# Altium footprint library Connector_Wire.PcbLib: 290 footprints (part 6 of 19)
Each footprint in its own frame and in the unit in brackets; x right, y up, seen from the top. Pads: shape width x height; smd on the part's side, far side on the other; paste and mask are expansions set on the pad; w line width, h text height; cw(c..) or ccw(c..) is an arc to the next point about the centre after c.
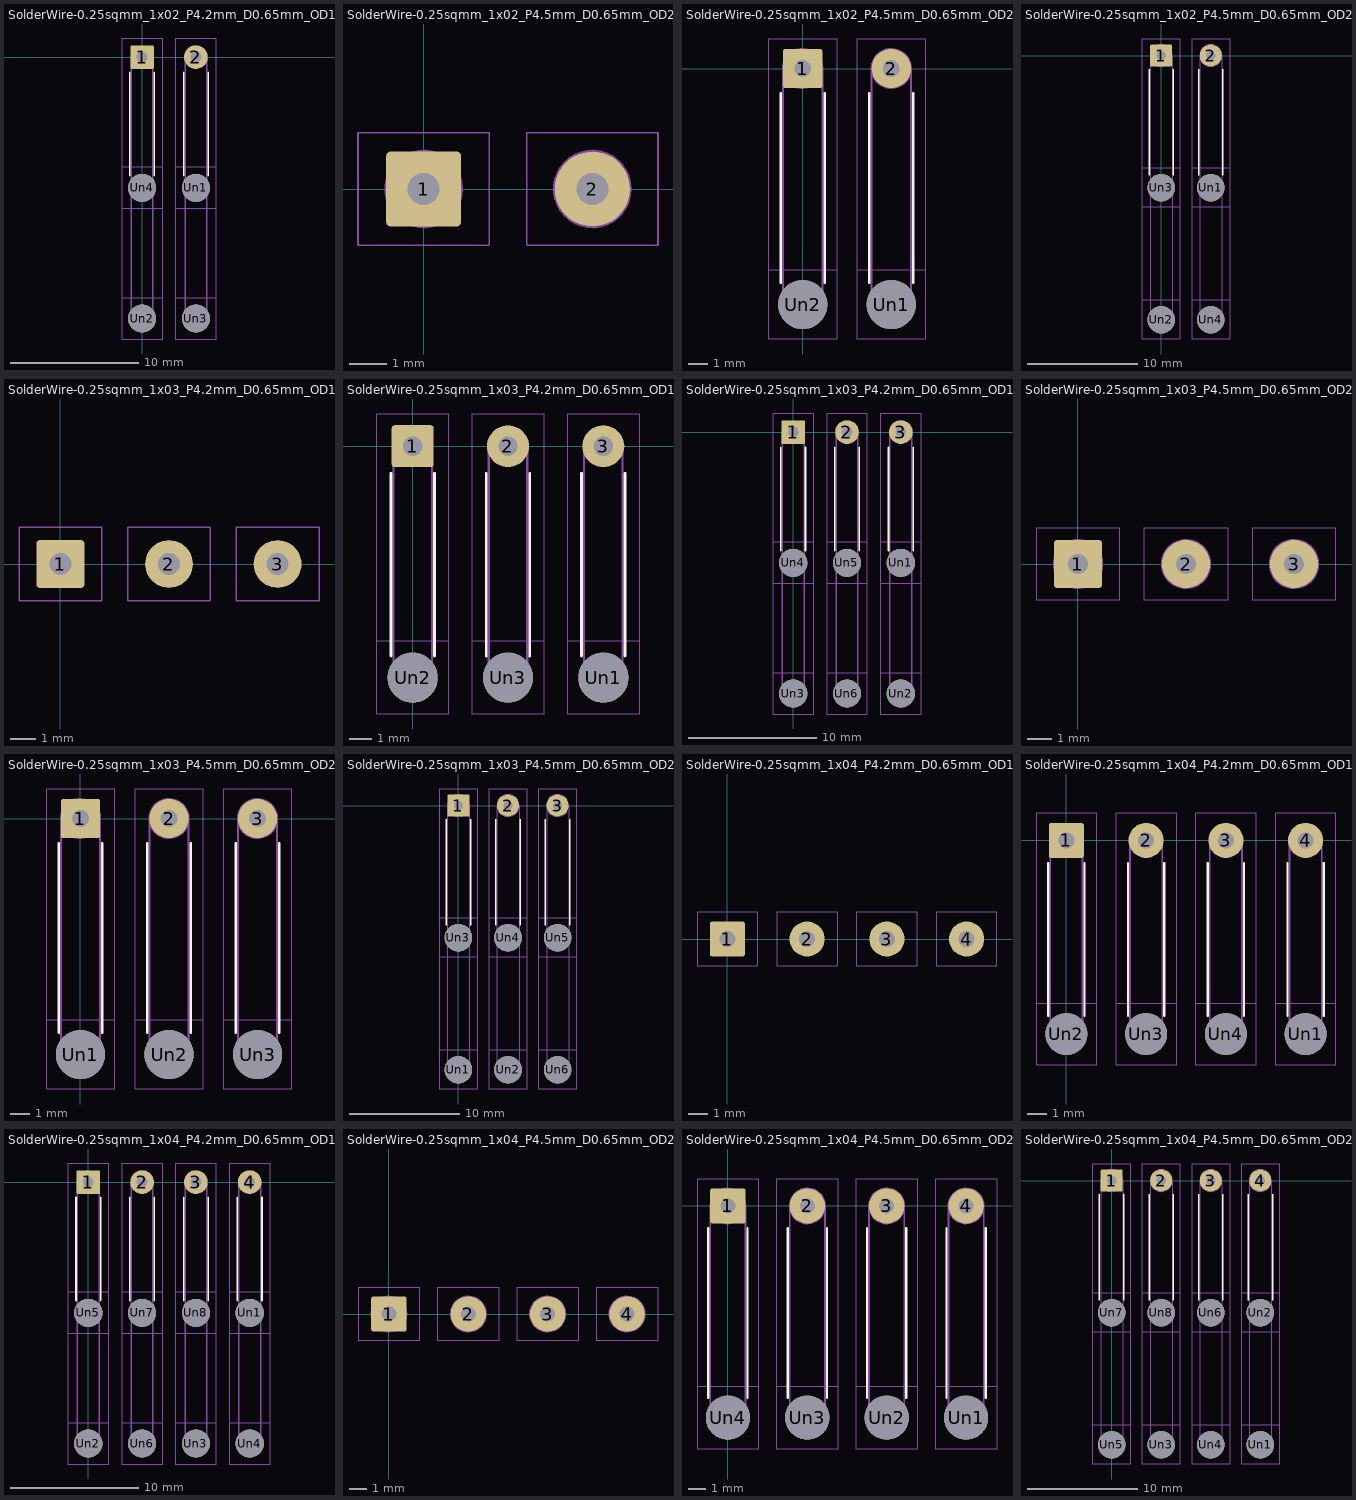
[diagram p5: the footprints below, top view; thin cyan lines are the x and y axes]

## SolderWire-0.25sqmm_1x02_P4.2mm_D0.65mm_OD1.7mm_Relief2x [mm]
pads (6):
  rrect14% 1.85x1.85 hole 0.85: 1(0,0)
  round 1.85 hole 0.85: 2(4.2,0)
  round 2.2 hole 2.2: Un1(4.2,-10.2) Un2(0,-20.4) Un3(4.2,-20.4) Un4(0,-10.2)
F.SilkS:
  lines w0.12: -0.96,-9.24 -0.96,-1.185 ; 0.96,-9.24 0.96,-1.185 ; 3.24,-9.24 3.24,-1.185 ; 5.16,-9.24 5.16,-1.185
B.SilkS:
  lines w0.12: -0.96,-19.44 -0.96,-11.16 ; 0.96,-19.44 0.96,-11.16 ; 3.24,-19.44 3.24,-11.16 ; 5.16,-19.44 5.16,-11.16
B.CrtYd:
  lines w0.05: -1.6,-22 1.6,-22 1.6,-8.6 -1.6,-8.6 -1.6,-22 ; 2.6,-22 5.8,-22 5.8,-8.6 2.6,-8.6 2.6,-22
F.CrtYd:
  lines w0.05: -1.6,-22 -1.6,-18.8 1.6,-18.8 1.6,-22 -1.6,-22 ; -1.6,-11.8 1.6,-11.8 1.6,1.42 -1.6,1.42 -1.6,-11.8 ; 2.6,-22 5.8,-22 5.8,-18.8 2.6,-18.8 2.6,-22 ; 2.6,-11.8 5.8,-11.8 5.8,1.42 2.6,1.42 2.6,-11.8
B.Fab:
  circle w0.1: c4.2,-10.2 r0.85
  circle w0.1: c0,-20.4 r0.85
  circle w0.1: c4.2,-20.4 r0.85
  circle w0.1: c0,-10.2 r0.85
  lines w0.1: -0.85,-20.4 -0.85,-10.2 ; 0.85,-20.4 0.85,-10.2 ; 3.35,-20.4 3.35,-10.2 ; 5.05,-20.4 5.05,-10.2
F.Fab:
  circle w0.1: c4.2,0 r0.85
  circle w0.1: c4.2,-10.2 r0.85
  circle w0.1: c4.2,-20.4 r0.85
  circle w0.1: c0,0 r0.85
  circle w0.1: c0,-20.4 r0.85
  circle w0.1: c0,-10.2 r0.85
  lines w0.1: -0.85,-10.2 -0.85,0 ; 0.85,-10.2 0.85,0 ; 3.35,-10.2 3.35,0 ; 5.05,-10.2 5.05,0
  text "'.Designator'" at 2.94,-9.147 h1

## SolderWire-0.25sqmm_1x02_P4.5mm_D0.65mm_OD2mm [mm]
pads (2):
  rrect12% 2x2 hole 0.85: 1(0,0)
  round 2 hole 0.85: 2(4.5,0)
F.CrtYd:
  lines w0.05: -1.75,-1.5 1.75,-1.5 1.75,1.5 -1.75,1.5 -1.75,-1.5 ; 2.75,-1.5 6.25,-1.5 6.25,1.5 2.75,1.5 2.75,-1.5
F.Fab:
  circle w0.1: c4.5,0 r1
  circle w0.1: c0,0 r1
  text "'.Designator'" at 2.878,-3.033 h0.75

## SolderWire-0.25sqmm_1x02_P4.5mm_D0.65mm_OD2mm_Relief [mm]
pads (4):
  rrect12% 2x2 hole 0.85: 1(0,0)
  round 2 hole 0.85: 2(4.5,0)
  round 2.5 hole 2.5: Un1(4.5,-12) Un2(0,-12)
F.SilkS:
  lines w0.12: -1.11,-10.89 -1.11,-1.26 ; 1.11,-10.89 1.11,-1.26 ; 3.39,-10.89 3.39,-1.26 ; 5.61,-10.89 5.61,-1.26
B.CrtYd:
  lines w0.05: -1.75,-13.75 -1.75,-10.25 1.75,-10.25 1.75,-13.75 -1.75,-13.75 ; 2.75,-13.75 2.75,-10.25 6.25,-10.25 6.25,-13.75 2.75,-13.75
F.CrtYd:
  lines w0.05: -1.75,-13.75 -1.75,1.5 1.75,1.5 1.75,-13.75 -1.75,-13.75 ; 2.75,-13.75 2.75,1.5 6.25,1.5 6.25,-13.75 2.75,-13.75
F.Fab:
  circle w0.1: c4.5,0 r1
  circle w0.1: c0,0 r1
  circle w0.1: c0,-12 r1
  circle w0.1: c4.5,-12 r1
  lines w0.1: -1,-12 -1,0 ; 1,-12 1,0 ; 3.5,-12 3.5,0 ; 5.5,-12 5.5,0
  text "'.Designator'" at 3.09,-10.047 h1

## SolderWire-0.25sqmm_1x02_P4.5mm_D0.65mm_OD2mm_Relief2x [mm]
pads (6):
  rrect12% 2x2 hole 0.85: 1(0,0)
  round 2 hole 0.85: 2(4.5,0)
  round 2.5 hole 2.5: Un1(4.5,-12) Un2(0,-24) Un3(0,-12) Un4(4.5,-24)
F.SilkS:
  lines w0.12: -1.11,-10.89 -1.11,-1.26 ; 1.11,-10.89 1.11,-1.26 ; 3.39,-10.89 3.39,-1.26 ; 5.61,-10.89 5.61,-1.26
B.SilkS:
  lines w0.12: -1.11,-22.89 -1.11,-13.11 ; 1.11,-22.89 1.11,-13.11 ; 3.39,-22.89 3.39,-13.11 ; 5.61,-22.89 5.61,-13.11
B.CrtYd:
  lines w0.05: -1.75,-25.75 1.75,-25.75 1.75,-10.25 -1.75,-10.25 -1.75,-25.75 ; 2.75,-25.75 6.25,-25.75 6.25,-10.25 2.75,-10.25 2.75,-25.75
F.CrtYd:
  lines w0.05: -1.75,-25.75 1.75,-25.75 1.75,-22.25 -1.75,-22.25 -1.75,-25.75 ; -1.75,-13.75 1.75,-13.75 1.75,1.5 -1.75,1.5 -1.75,-13.75 ; 2.75,-25.75 2.75,-22.25 6.25,-22.25 6.25,-25.75 2.75,-25.75 ; 2.75,-13.75 6.25,-13.75 6.25,1.5 2.75,1.5 2.75,-13.75
B.Fab:
  circle w0.1: c0,-24 r1
  circle w0.1: c0,-12 r1
  circle w0.1: c4.5,-12 r1
  circle w0.1: c4.5,-24 r1
  lines w0.1: -1,-24 -1,-12 ; 1,-24 1,-12 ; 3.5,-24 3.5,-12 ; 5.5,-24 5.5,-12
F.Fab:
  circle w0.1: c4.5,-12 r1
  circle w0.1: c4.5,-24 r1
  circle w0.1: c0,-24 r1
  circle w0.1: c0,-12 r1
  circle w0.1: c4.5,0 r1
  circle w0.1: c0,0 r1
  lines w0.1: -1,-12 -1,0 ; 1,-12 1,0 ; 3.5,-12 3.5,0 ; 5.5,-12 5.5,0
  text "'.Designator'" at 3.09,-10.047 h1

## SolderWire-0.25sqmm_1x03_P4.2mm_D0.65mm_OD1.7mm [mm]
pads (3):
  rrect14% 1.85x1.85 hole 0.85: 1(0,0)
  round 1.85 hole 0.85: 2(4.2,0) 3(8.4,0)
F.CrtYd:
  lines w0.05: -1.6,-1.42 -1.6,1.42 1.6,1.42 1.6,-1.42 -1.6,-1.42 ; 2.6,-1.42 2.6,1.42 5.8,1.42 5.8,-1.42 2.6,-1.42 ; 6.8,-1.42 10,-1.42 10,1.42 6.8,1.42 6.8,-1.42
F.Fab:
  circle w0.1: c0,0 r0.85
  circle w0.1: c4.2,0 r0.85
  circle w0.1: c8.4,0 r0.85
  text "'.Designator'" at 4.55,-1.697 h0.42

## SolderWire-0.25sqmm_1x03_P4.2mm_D0.65mm_OD1.7mm_Relief [mm]
pads (6):
  rrect14% 1.85x1.85 hole 0.85: 1(0,0)
  round 1.85 hole 0.85: 2(4.2,0) 3(8.4,0)
  round 2.2 hole 2.2: Un1(8.4,-10.2) Un2(0,-10.2) Un3(4.2,-10.2)
F.SilkS:
  lines w0.12: -0.96,-9.24 -0.96,-1.185 ; 0.96,-9.24 0.96,-1.185 ; 3.24,-9.24 3.24,-1.185 ; 5.16,-9.24 5.16,-1.185 ; 7.44,-9.24 7.44,-1.185 ; 9.36,-9.24 9.36,-1.185
B.CrtYd:
  lines w0.05: -1.6,-11.8 1.6,-11.8 1.6,-8.6 -1.6,-8.6 -1.6,-11.8 ; 2.6,-11.8 5.8,-11.8 5.8,-8.6 2.6,-8.6 2.6,-11.8 ; 6.8,-11.8 6.8,-8.6 10,-8.6 10,-11.8 6.8,-11.8
F.CrtYd:
  lines w0.05: -1.6,-11.8 1.6,-11.8 1.6,1.42 -1.6,1.42 -1.6,-11.8 ; 2.6,-11.8 5.8,-11.8 5.8,1.42 2.6,1.42 2.6,-11.8 ; 6.8,-11.8 6.8,1.42 10,1.42 10,-11.8 6.8,-11.8
F.Fab:
  circle w0.1: c8.4,0 r0.85
  circle w0.1: c4.2,0 r0.85
  circle w0.1: c4.2,-10.2 r0.85
  circle w0.1: c8.4,-10.2 r0.85
  circle w0.1: c0,0 r0.85
  circle w0.1: c0,-10.2 r0.85
  lines w0.1: -0.85,-10.2 -0.85,0 ; 0.85,-10.2 0.85,0 ; 3.35,-10.2 3.35,0 ; 5.05,-10.2 5.05,0 ; 7.55,-10.2 7.55,0 ; 9.25,-10.2 9.25,0
  text "'.Designator'" at 5.04,-9.147 h1

## SolderWire-0.25sqmm_1x03_P4.2mm_D0.65mm_OD1.7mm_Relief2x [mm]
pads (9):
  rrect14% 1.85x1.85 hole 0.85: 1(0,0)
  round 1.85 hole 0.85: 2(4.2,0) 3(8.4,0)
  round 2.2 hole 2.2: Un1(8.4,-10.2) Un2(8.4,-20.4) Un3(0,-20.4) Un4(0,-10.2) Un5(4.2,-10.2) Un6(4.2,-20.4)
F.SilkS:
  lines w0.12: -0.96,-9.24 -0.96,-1.185 ; 0.96,-9.24 0.96,-1.185 ; 3.24,-9.24 3.24,-1.185 ; 5.16,-9.24 5.16,-1.185 ; 7.44,-9.24 7.44,-1.185 ; 9.36,-9.24 9.36,-1.185
B.SilkS:
  lines w0.12: -0.96,-19.44 -0.96,-11.16 ; 0.96,-19.44 0.96,-11.16 ; 3.24,-19.44 3.24,-11.16 ; 5.16,-19.44 5.16,-11.16 ; 7.44,-19.44 7.44,-11.16 ; 9.36,-19.44 9.36,-11.16
B.CrtYd:
  lines w0.05: -1.6,-22 1.6,-22 1.6,-8.6 -1.6,-8.6 -1.6,-22 ; 2.6,-22 5.8,-22 5.8,-8.6 2.6,-8.6 2.6,-22 ; 6.8,-22 10,-22 10,-8.6 6.8,-8.6 6.8,-22
F.CrtYd:
  lines w0.05: -1.6,-22 -1.6,-18.8 1.6,-18.8 1.6,-22 -1.6,-22 ; -1.6,-11.8 1.6,-11.8 1.6,1.42 -1.6,1.42 -1.6,-11.8 ; 2.6,-22 2.6,-18.8 5.8,-18.8 5.8,-22 2.6,-22 ; 2.6,-11.8 2.6,1.42 5.8,1.42 5.8,-11.8 2.6,-11.8 ; 6.8,-22 10,-22 10,-18.8 6.8,-18.8 6.8,-22 ; 6.8,-11.8 6.8,1.42 10,1.42 10,-11.8 6.8,-11.8
B.Fab:
  circle w0.1: c8.4,-10.2 r0.85
  circle w0.1: c4.2,-20.4 r0.85
  circle w0.1: c8.4,-20.4 r0.85
  circle w0.1: c0,-10.2 r0.85
  circle w0.1: c4.2,-10.2 r0.85
  circle w0.1: c0,-20.4 r0.85
  lines w0.1: -0.85,-20.4 -0.85,-10.2 ; 0.85,-20.4 0.85,-10.2 ; 3.35,-20.4 3.35,-10.2 ; 5.05,-20.4 5.05,-10.2 ; 7.55,-20.4 7.55,-10.2 ; 9.25,-20.4 9.25,-10.2
F.Fab:
  circle w0.1: c8.4,-20.4 r0.85
  circle w0.1: c0,0 r0.85
  circle w0.1: c4.2,-20.4 r0.85
  circle w0.1: c4.2,0 r0.85
  circle w0.1: c4.2,-10.2 r0.85
  circle w0.1: c8.4,-10.2 r0.85
  circle w0.1: c8.4,0 r0.85
  circle w0.1: c0,-10.2 r0.85
  circle w0.1: c0,-20.4 r0.85
  lines w0.1: -0.85,-10.2 -0.85,0 ; 0.85,-10.2 0.85,0 ; 3.35,-10.2 3.35,0 ; 5.05,-10.2 5.05,0 ; 7.55,-10.2 7.55,0 ; 9.25,-10.2 9.25,0
  text "'.Designator'" at 5.04,-9.147 h1

## SolderWire-0.25sqmm_1x03_P4.5mm_D0.65mm_OD2mm [mm]
pads (3):
  rrect12% 2x2 hole 0.85: 1(0,0)
  round 2 hole 0.85: 2(4.5,0) 3(9,0)
F.CrtYd:
  lines w0.05: -1.75,-1.5 -1.75,1.5 1.75,1.5 1.75,-1.5 -1.75,-1.5 ; 2.75,-1.5 2.75,1.5 6.25,1.5 6.25,-1.5 2.75,-1.5 ; 7.25,-1.5 10.75,-1.5 10.75,1.5 7.25,1.5 7.25,-1.5
F.Fab:
  circle w0.1: c0,0 r1
  circle w0.1: c4.5,0 r1
  circle w0.1: c9,0 r1
  text "'.Designator'" at 2.472,-0.425 h0.5

## SolderWire-0.25sqmm_1x03_P4.5mm_D0.65mm_OD2mm_Relief [mm]
pads (6):
  rrect12% 2x2 hole 0.85: 1(0,0)
  round 2 hole 0.85: 2(4.5,0) 3(9,0)
  round 2.5 hole 2.5: Un1(0,-12) Un2(4.5,-12) Un3(9,-12)
F.SilkS:
  lines w0.12: -1.11,-10.89 -1.11,-1.26 ; 1.11,-10.89 1.11,-1.26 ; 3.39,-10.89 3.39,-1.26 ; 5.61,-10.89 5.61,-1.26 ; 7.89,-10.89 7.89,-1.26 ; 10.11,-10.89 10.11,-1.26
B.CrtYd:
  lines w0.05: -1.75,-13.75 1.75,-13.75 1.75,-10.25 -1.75,-10.25 -1.75,-13.75 ; 2.75,-13.75 2.75,-10.25 6.25,-10.25 6.25,-13.75 2.75,-13.75 ; 7.25,-13.75 7.25,-10.25 10.75,-10.25 10.75,-13.75 7.25,-13.75
F.CrtYd:
  lines w0.05: -1.75,-13.75 -1.75,1.5 1.75,1.5 1.75,-13.75 -1.75,-13.75 ; 2.75,-13.75 6.25,-13.75 6.25,1.5 2.75,1.5 2.75,-13.75 ; 7.25,-13.75 10.75,-13.75 10.75,1.5 7.25,1.5 7.25,-13.75
F.Fab:
  circle w0.1: c4.5,-12 r1
  circle w0.1: c9,-12 r1
  circle w0.1: c0,0 r1
  circle w0.1: c4.5,0 r1
  circle w0.1: c9,0 r1
  circle w0.1: c0,-12 r1
  lines w0.1: -1,-12 -1,0 ; 1,-12 1,0 ; 3.5,-12 3.5,0 ; 5.5,-12 5.5,0 ; 8,-12 8,0 ; 10,-12 10,0
  text "'.Designator'" at 5.34,-10.047 h1

## SolderWire-0.25sqmm_1x03_P4.5mm_D0.65mm_OD2mm_Relief2x [mm]
pads (9):
  rrect12% 2x2 hole 0.85: 1(0,0)
  round 2 hole 0.85: 2(4.5,0) 3(9,0)
  round 2.5 hole 2.5: Un1(0,-24) Un2(4.5,-24) Un3(0,-12) Un4(4.5,-12) Un5(9,-12) Un6(9,-24)
F.SilkS:
  lines w0.12: -1.11,-10.89 -1.11,-1.26 ; 1.11,-10.89 1.11,-1.26 ; 3.39,-10.89 3.39,-1.26 ; 5.61,-10.89 5.61,-1.26 ; 7.89,-10.89 7.89,-1.26 ; 10.11,-10.89 10.11,-1.26
B.SilkS:
  lines w0.12: -1.11,-22.89 -1.11,-13.11 ; 1.11,-22.89 1.11,-13.11 ; 3.39,-22.89 3.39,-13.11 ; 5.61,-22.89 5.61,-13.11 ; 7.89,-22.89 7.89,-13.11 ; 10.11,-22.89 10.11,-13.11
B.CrtYd:
  lines w0.05: -1.75,-25.75 1.75,-25.75 1.75,-10.25 -1.75,-10.25 -1.75,-25.75 ; 2.75,-25.75 6.25,-25.75 6.25,-10.25 2.75,-10.25 2.75,-25.75 ; 7.25,-25.75 10.75,-25.75 10.75,-10.25 7.25,-10.25 7.25,-25.75
F.CrtYd:
  lines w0.05: -1.75,-25.75 1.75,-25.75 1.75,-22.25 -1.75,-22.25 -1.75,-25.75 ; -1.75,-13.75 1.75,-13.75 1.75,1.5 -1.75,1.5 -1.75,-13.75 ; 2.75,-25.75 6.25,-25.75 6.25,-22.25 2.75,-22.25 2.75,-25.75 ; 2.75,-13.75 6.25,-13.75 6.25,1.5 2.75,1.5 2.75,-13.75 ; 7.25,-25.75 10.75,-25.75 10.75,-22.25 7.25,-22.25 7.25,-25.75 ; 7.25,-13.75 10.75,-13.75 10.75,1.5 7.25,1.5 7.25,-13.75
B.Fab:
  circle w0.1: c9,-24 r1
  circle w0.1: c9,-12 r1
  circle w0.1: c0,-12 r1
  circle w0.1: c4.5,-24 r1
  circle w0.1: c0,-24 r1
  circle w0.1: c4.5,-12 r1
  lines w0.1: -1,-24 -1,-12 ; 1,-24 1,-12 ; 3.5,-24 3.5,-12 ; 5.5,-24 5.5,-12 ; 8,-24 8,-12 ; 10,-24 10,-12
F.Fab:
  circle w0.1: c9,0 r1
  circle w0.1: c4.5,0 r1
  circle w0.1: c4.5,-24 r1
  circle w0.1: c9,-12 r1
  circle w0.1: c9,-24 r1
  circle w0.1: c4.5,-12 r1
  circle w0.1: c0,-24 r1
  circle w0.1: c0,0 r1
  circle w0.1: c0,-12 r1
  lines w0.1: -1,-12 -1,0 ; 1,-12 1,0 ; 3.5,-12 3.5,0 ; 5.5,-12 5.5,0 ; 8,-12 8,0 ; 10,-12 10,0
  text "'.Designator'" at 5.34,-10.047 h1

## SolderWire-0.25sqmm_1x04_P4.2mm_D0.65mm_OD1.7mm [mm]
pads (4):
  rrect14% 1.85x1.85 hole 0.85: 1(0,0)
  round 1.85 hole 0.85: 2(4.2,0) 3(8.4,0) 4(12.6,0)
F.CrtYd:
  lines w0.05: -1.6,-1.42 -1.6,1.42 1.6,1.42 1.6,-1.42 -1.6,-1.42 ; 2.6,-1.42 5.8,-1.42 5.8,1.42 2.6,1.42 2.6,-1.42 ; 6.8,-1.42 6.8,1.42 10,1.42 10,-1.42 6.8,-1.42 ; 11,-1.42 14.2,-1.42 14.2,1.42 11,1.42 11,-1.42
F.Fab:
  circle w0.1: c12.6,0 r0.85
  circle w0.1: c8.4,0 r0.85
  circle w0.1: c4.2,0 r0.85
  circle w0.1: c0,0 r0.85
  text "'.Designator'" at 6.9,-2.877 h0.71

## SolderWire-0.25sqmm_1x04_P4.2mm_D0.65mm_OD1.7mm_Relief [mm]
pads (8):
  rrect14% 1.85x1.85 hole 0.85: 1(0,0)
  round 1.85 hole 0.85: 2(4.2,0) 3(8.4,0) 4(12.6,0)
  round 2.2 hole 2.2: Un1(12.6,-10.2) Un2(0,-10.2) Un3(4.2,-10.2) Un4(8.4,-10.2)
F.SilkS:
  lines w0.12: -0.96,-9.24 -0.96,-1.185 ; 0.96,-9.24 0.96,-1.185 ; 3.24,-9.24 3.24,-1.185 ; 5.16,-9.24 5.16,-1.185 ; 7.44,-9.24 7.44,-1.185 ; 9.36,-9.24 9.36,-1.185 ; 11.64,-9.24 11.64,-1.185 ; 13.56,-9.24 13.56,-1.185
B.CrtYd:
  lines w0.05: -1.6,-11.8 1.6,-11.8 1.6,-8.6 -1.6,-8.6 -1.6,-11.8 ; 2.6,-11.8 5.8,-11.8 5.8,-8.6 2.6,-8.6 2.6,-11.8 ; 6.8,-11.8 6.8,-8.6 10,-8.6 10,-11.8 6.8,-11.8 ; 11,-11.8 11,-8.6 14.2,-8.6 14.2,-11.8 11,-11.8
F.CrtYd:
  lines w0.05: -1.6,-11.8 1.6,-11.8 1.6,1.42 -1.6,1.42 -1.6,-11.8 ; 2.6,-11.8 2.6,1.42 5.8,1.42 5.8,-11.8 2.6,-11.8 ; 6.8,-11.8 6.8,1.42 10,1.42 10,-11.8 6.8,-11.8 ; 11,-11.8 14.2,-11.8 14.2,1.42 11,1.42 11,-11.8
F.Fab:
  circle w0.1: c12.6,0 r0.85
  circle w0.1: c12.6,-10.2 r0.85
  circle w0.1: c4.2,-10.2 r0.85
  circle w0.1: c8.4,0 r0.85
  circle w0.1: c0,-10.2 r0.85
  circle w0.1: c4.2,0 r0.85
  circle w0.1: c8.4,-10.2 r0.85
  circle w0.1: c0,0 r0.85
  lines w0.1: -0.85,-10.2 -0.85,0 ; 0.85,-10.2 0.85,0 ; 3.35,-10.2 3.35,0 ; 5.05,-10.2 5.05,0 ; 7.55,-10.2 7.55,0 ; 9.25,-10.2 9.25,0 ; 11.75,-10.2 11.75,0 ; 13.45,-10.2 13.45,0
  text "'.Designator'" at 7.14,-9.147 h1

## SolderWire-0.25sqmm_1x04_P4.2mm_D0.65mm_OD1.7mm_Relief2x [mm]
pads (12):
  rrect14% 1.85x1.85 hole 0.85: 1(0,0)
  round 1.85 hole 0.85: 2(4.2,0) 3(8.4,0) 4(12.6,0)
  round 2.2 hole 2.2: Un1(12.6,-10.2) Un2(0,-20.4) Un3(8.4,-20.4) Un4(12.6,-20.4) Un5(0,-10.2) Un6(4.2,-20.4) Un7(4.2,-10.2) Un8(8.4,-10.2)
F.SilkS:
  lines w0.12: -0.96,-9.24 -0.96,-1.185 ; 0.96,-9.24 0.96,-1.185 ; 3.24,-9.24 3.24,-1.185 ; 5.16,-9.24 5.16,-1.185 ; 7.44,-9.24 7.44,-1.185 ; 9.36,-9.24 9.36,-1.185 ; 11.64,-9.24 11.64,-1.185 ; 13.56,-9.24 13.56,-1.185
B.SilkS:
  lines w0.12: -0.96,-19.44 -0.96,-11.16 ; 0.96,-19.44 0.96,-11.16 ; 3.24,-19.44 3.24,-11.16 ; 5.16,-19.44 5.16,-11.16 ; 7.44,-19.44 7.44,-11.16 ; 9.36,-19.44 9.36,-11.16 ; 11.64,-19.44 11.64,-11.16 ; 13.56,-19.44 13.56,-11.16
B.CrtYd:
  lines w0.05: -1.6,-22 -1.6,-8.6 1.6,-8.6 1.6,-22 -1.6,-22 ; 2.6,-22 2.6,-8.6 5.8,-8.6 5.8,-22 2.6,-22 ; 6.8,-22 10,-22 10,-8.6 6.8,-8.6 6.8,-22 ; 11,-22 11,-8.6 14.2,-8.6 14.2,-22 11,-22
F.CrtYd:
  lines w0.05: -1.6,-22 -1.6,-18.8 1.6,-18.8 1.6,-22 -1.6,-22 ; -1.6,-11.8 -1.6,1.42 1.6,1.42 1.6,-11.8 -1.6,-11.8 ; 2.6,-22 2.6,-18.8 5.8,-18.8 5.8,-22 2.6,-22 ; 2.6,-11.8 2.6,1.42 5.8,1.42 5.8,-11.8 2.6,-11.8 ; 6.8,-22 10,-22 10,-18.8 6.8,-18.8 6.8,-22 ; 6.8,-11.8 6.8,1.42 10,1.42 10,-11.8 6.8,-11.8 ; 11,-22 11,-18.8 14.2,-18.8 14.2,-22 11,-22 ; 11,-11.8 11,1.42 14.2,1.42 14.2,-11.8 11,-11.8
B.Fab:
  circle w0.1: c8.4,-20.4 r0.85
  circle w0.1: c4.2,-10.2 r0.85
  circle w0.1: c12.6,-20.4 r0.85
  circle w0.1: c4.2,-20.4 r0.85
  circle w0.1: c0,-10.2 r0.85
  circle w0.1: c12.6,-10.2 r0.85
  circle w0.1: c0,-20.4 r0.85
  circle w0.1: c8.4,-10.2 r0.85
  lines w0.1: -0.85,-20.4 -0.85,-10.2 ; 0.85,-20.4 0.85,-10.2 ; 3.35,-20.4 3.35,-10.2 ; 5.05,-20.4 5.05,-10.2 ; 7.55,-20.4 7.55,-10.2 ; 9.25,-20.4 9.25,-10.2 ; 11.75,-20.4 11.75,-10.2 ; 13.45,-20.4 13.45,-10.2
F.Fab:
  circle w0.1: c8.4,-20.4 r0.85
  circle w0.1: c4.2,-10.2 r0.85
  circle w0.1: c8.4,0 r0.85
  circle w0.1: c4.2,0 r0.85
  circle w0.1: c12.6,0 r0.85
  circle w0.1: c0,0 r0.85
  circle w0.1: c12.6,-20.4 r0.85
  circle w0.1: c0,-10.2 r0.85
  circle w0.1: c8.4,-10.2 r0.85
  circle w0.1: c12.6,-10.2 r0.85
  circle w0.1: c0,-20.4 r0.85
  circle w0.1: c4.2,-20.4 r0.85
  lines w0.1: -0.85,-10.2 -0.85,0 ; 0.85,-10.2 0.85,0 ; 3.35,-10.2 3.35,0 ; 5.05,-10.2 5.05,0 ; 7.55,-10.2 7.55,0 ; 9.25,-10.2 9.25,0 ; 11.75,-10.2 11.75,0 ; 13.45,-10.2 13.45,0
  text "'.Designator'" at 7.14,-9.147 h1

## SolderWire-0.25sqmm_1x04_P4.5mm_D0.65mm_OD2mm [mm]
pads (4):
  rrect12% 2x2 hole 0.85: 1(0,0)
  round 2 hole 0.85: 2(4.5,0) 3(9,0) 4(13.5,0)
F.CrtYd:
  lines w0.05: -1.75,-1.5 -1.75,1.5 1.75,1.5 1.75,-1.5 -1.75,-1.5 ; 2.75,-1.5 6.25,-1.5 6.25,1.5 2.75,1.5 2.75,-1.5 ; 7.25,-1.5 7.25,1.5 10.75,1.5 10.75,-1.5 7.25,-1.5 ; 11.75,-1.5 11.75,1.5 15.25,1.5 15.25,-1.5 11.75,-1.5
F.Fab:
  circle w0.1: c9,0 r1
  circle w0.1: c4.5,0 r1
  circle w0.1: c13.5,0 r1
  circle w0.1: c0,0 r1
  text "'.Designator'" at 7.378,-3.033 h0.75

## SolderWire-0.25sqmm_1x04_P4.5mm_D0.65mm_OD2mm_Relief [mm]
pads (8):
  rrect12% 2x2 hole 0.85: 1(0,0)
  round 2 hole 0.85: 2(4.5,0) 3(9,0) 4(13.5,0)
  round 2.5 hole 2.5: Un1(13.5,-12) Un2(9,-12) Un3(4.5,-12) Un4(0,-12)
F.SilkS:
  lines w0.12: -1.11,-10.89 -1.11,-1.26 ; 1.11,-10.89 1.11,-1.26 ; 3.39,-10.89 3.39,-1.26 ; 5.61,-10.89 5.61,-1.26 ; 7.89,-10.89 7.89,-1.26 ; 10.11,-10.89 10.11,-1.26 ; 12.39,-10.89 12.39,-1.26 ; 14.61,-10.89 14.61,-1.26
B.CrtYd:
  lines w0.05: -1.75,-13.75 -1.75,-10.25 1.75,-10.25 1.75,-13.75 -1.75,-13.75 ; 2.75,-13.75 6.25,-13.75 6.25,-10.25 2.75,-10.25 2.75,-13.75 ; 7.25,-13.75 10.75,-13.75 10.75,-10.25 7.25,-10.25 7.25,-13.75 ; 11.75,-13.75 15.25,-13.75 15.25,-10.25 11.75,-10.25 11.75,-13.75
F.CrtYd:
  lines w0.05: -1.75,-13.75 -1.75,1.5 1.75,1.5 1.75,-13.75 -1.75,-13.75 ; 2.75,-13.75 6.25,-13.75 6.25,1.5 2.75,1.5 2.75,-13.75 ; 7.25,-13.75 10.75,-13.75 10.75,1.5 7.25,1.5 7.25,-13.75 ; 11.75,-13.75 11.75,1.5 15.25,1.5 15.25,-13.75 11.75,-13.75
F.Fab:
  circle w0.1: c13.5,-12 r1
  circle w0.1: c0,-12 r1
  circle w0.1: c4.5,0 r1
  circle w0.1: c9,-12 r1
  circle w0.1: c0,0 r1
  circle w0.1: c9,0 r1
  circle w0.1: c4.5,-12 r1
  circle w0.1: c13.5,0 r1
  lines w0.1: -1,-12 -1,0 ; 1,-12 1,0 ; 3.5,-12 3.5,0 ; 5.5,-12 5.5,0 ; 8,-12 8,0 ; 10,-12 10,0 ; 12.5,-12 12.5,0 ; 14.5,-12 14.5,0
  text "'.Designator'" at 7.59,-10.047 h1

## SolderWire-0.25sqmm_1x04_P4.5mm_D0.65mm_OD2mm_Relief2x [mm]
pads (12):
  rrect12% 2x2 hole 0.85: 1(0,0)
  round 2 hole 0.85: 2(4.5,0) 3(9,0) 4(13.5,0)
  round 2.5 hole 2.5: Un1(13.5,-24) Un2(13.5,-12) Un3(4.5,-24) Un4(9,-24) Un5(0,-24) Un6(9,-12) Un7(0,-12) Un8(4.5,-12)
F.SilkS:
  lines w0.12: -1.11,-10.89 -1.11,-1.26 ; 1.11,-10.89 1.11,-1.26 ; 3.39,-10.89 3.39,-1.26 ; 5.61,-10.89 5.61,-1.26 ; 7.89,-10.89 7.89,-1.26 ; 10.11,-10.89 10.11,-1.26 ; 12.39,-10.89 12.39,-1.26 ; 14.61,-10.89 14.61,-1.26
B.SilkS:
  lines w0.12: -1.11,-22.89 -1.11,-13.11 ; 1.11,-22.89 1.11,-13.11 ; 3.39,-22.89 3.39,-13.11 ; 5.61,-22.89 5.61,-13.11 ; 7.89,-22.89 7.89,-13.11 ; 10.11,-22.89 10.11,-13.11 ; 12.39,-22.89 12.39,-13.11 ; 14.61,-22.89 14.61,-13.11
B.CrtYd:
  lines w0.05: -1.75,-25.75 1.75,-25.75 1.75,-10.25 -1.75,-10.25 -1.75,-25.75 ; 2.75,-25.75 6.25,-25.75 6.25,-10.25 2.75,-10.25 2.75,-25.75 ; 7.25,-25.75 10.75,-25.75 10.75,-10.25 7.25,-10.25 7.25,-25.75 ; 11.75,-25.75 11.75,-10.25 15.25,-10.25 15.25,-25.75 11.75,-25.75
F.CrtYd:
  lines w0.05: -1.75,-25.75 -1.75,-22.25 1.75,-22.25 1.75,-25.75 -1.75,-25.75 ; -1.75,-13.75 -1.75,1.5 1.75,1.5 1.75,-13.75 -1.75,-13.75 ; 2.75,-25.75 6.25,-25.75 6.25,-22.25 2.75,-22.25 2.75,-25.75 ; 2.75,-13.75 2.75,1.5 6.25,1.5 6.25,-13.75 2.75,-13.75 ; 7.25,-25.75 7.25,-22.25 10.75,-22.25 10.75,-25.75 7.25,-25.75 ; 7.25,-13.75 10.75,-13.75 10.75,1.5 7.25,1.5 7.25,-13.75 ; 11.75,-25.75 11.75,-22.25 15.25,-22.25 15.25,-25.75 11.75,-25.75 ; 11.75,-13.75 15.25,-13.75 15.25,1.5 11.75,1.5 11.75,-13.75
B.Fab:
  circle w0.1: c4.5,-12 r1
  circle w0.1: c13.5,-12 r1
  circle w0.1: c4.5,-24 r1
  circle w0.1: c0,-24 r1
  circle w0.1: c0,-12 r1
  circle w0.1: c9,-24 r1
  circle w0.1: c9,-12 r1
  circle w0.1: c13.5,-24 r1
  lines w0.1: -1,-24 -1,-12 ; 1,-24 1,-12 ; 3.5,-24 3.5,-12 ; 5.5,-24 5.5,-12 ; 8,-24 8,-12 ; 10,-24 10,-12 ; 12.5,-24 12.5,-12 ; 14.5,-24 14.5,-12
F.Fab:
  circle w0.1: c0,-24 r1
  circle w0.1: c13.5,-12 r1
  circle w0.1: c9,-12 r1
  circle w0.1: c9,-24 r1
  circle w0.1: c9,0 r1
  circle w0.1: c13.5,0 r1
  circle w0.1: c4.5,0 r1
  circle w0.1: c4.5,-24 r1
  circle w0.1: c4.5,-12 r1
  circle w0.1: c13.5,-24 r1
  circle w0.1: c0,0 r1
  circle w0.1: c0,-12 r1
  lines w0.1: -1,-12 -1,0 ; 1,-12 1,0 ; 3.5,-12 3.5,0 ; 5.5,-12 5.5,0 ; 8,-12 8,0 ; 10,-12 10,0 ; 12.5,-12 12.5,0 ; 14.5,-12 14.5,0
  text "'.Designator'" at 7.59,-10.047 h1